# Altium schematic symbol library 05M_lib.SchLib: 7 symbols
Pins are listed as number, name and electrical type; pins without a type are passive.

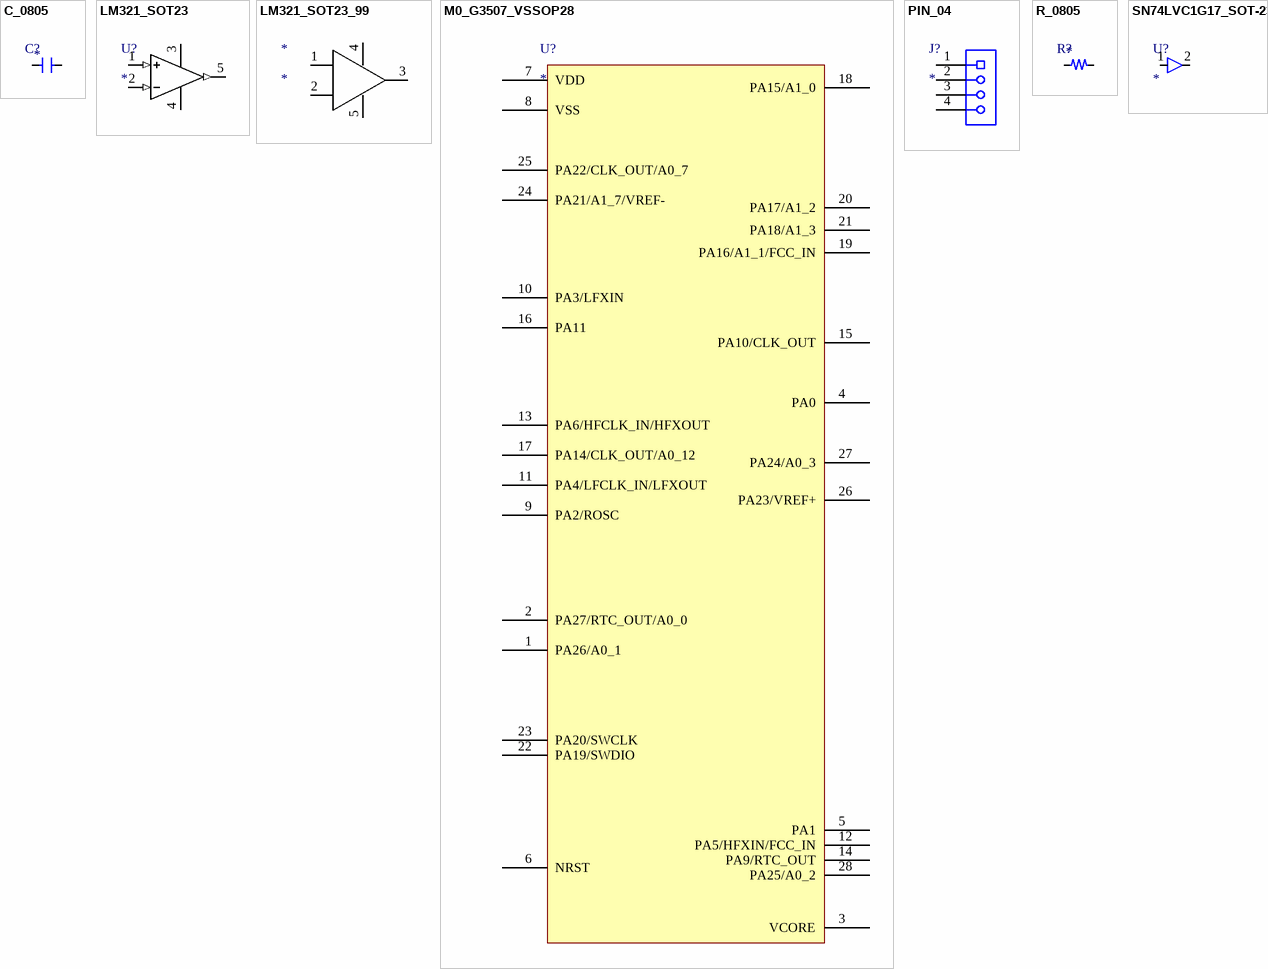
[diagram p0: symbols C_0805 to SN74LVC1G17_SOT-23]

## C_0805
designator C?
Capacitance; VALUE: *
pins: 29, 30

## LM321_SOT23
designator U?
pins: 1 IN+ (in), 2 IN- (in), 3 VCC, 4 GND, 5 Output (out)

## LM321_SOT23_99
designator *
pins: 1, 2, 3, 4, 5

## M0_G3507_VSSOP28
designator U?  (net tie)
VSSOP28  [7.1 mm × 3 mm]
pins: 1 PA26/A0_1, 2 PA27/RTC_OUT/A0_0, 3 VCORE, 4 PA0, 5 PA1, 6 NRST, 7 VDD, 8 VSS, 9 PA2/ROSC, 10 PA3/LFXIN, 11 PA4/LFCLK_IN/LFXOUT, 12 PA5/HFXIN/FCC_IN, 13 PA6/HFCLK_IN/HFXOUT, 14 PA9/RTC_OUT, 15 PA10/CLK_OUT, 16 PA11, 17 PA14/CLK_OUT/A0_12, 18 PA15/A1_0, 19 PA16/A1_1/FCC_IN, 20 PA17/A1_2, 21 PA18/A1_3, 22 PA19/SWDIO, 23 PA20/SWCLK, 24 PA21/A1_7/VREF-, 25 PA22/CLK_OUT/A0_7, 26 PA23/VREF+, 27 PA24/A0_3, 28 PA25/A0_2

## PIN_04
designator J?
Connector
pins: 1, 2, 3, 4

## R_0805
designator R?
Resistor; VALUE: *
pins: 1, 2

## SN74LVC1G17_SOT-23
designator U?
pins: 1, 2